# Altium schematic symbol library NEUTRIK_NSJ12.SchLib: 1 symbol
Pins are listed as number, name and electrical type; pins without a type are passive.

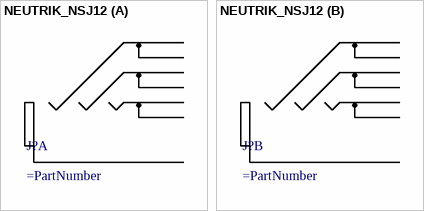
[diagram p0: symbol NEUTRIK_NSJ12]

## NEUTRIK_NSJ12
designator J?
part A pins: G, RB, RNB, SB, SNB, TB, TNB
part B pins: RNT, RT, SNT, ST, TNT, TT